# Altium schematic symbol library trans1.SchLib: 1 symbol
Pins are listed as number, name and electrical type; pins without a type are passive.

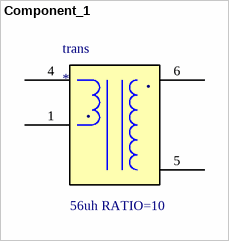
[diagram p0: symbol Component_1]

## Component_1
designator trans
footprint PCBComponent_1
pins: 1, 4, 5, 6
text: .; 56uh RATIO=10